# EAGLE library part MC14042BDG (library ON_Semiconductor_By_element14_Batch_1)
Quad Transparent Latch
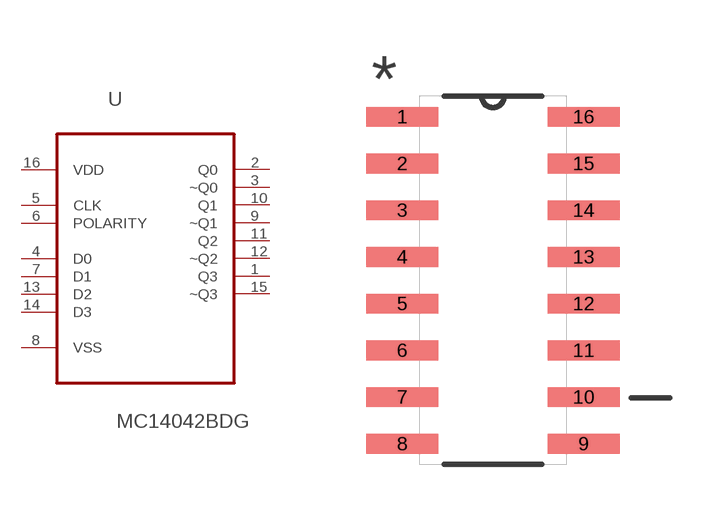
[diagram p227: symbol with the pads of SOIC127P600X175-16N; footprint SOIC127P600X175-16N]

Designator prefix U

## MC14042BDG (MPN: MC14042BDG; OC_FARNELL: -; OC_NEWARK: 71J5467; PACKAGE: SOIC-16; SUPPLIER: ON SEMICONDUCTOR)  [SOIC127P600X175-16N]
1  Q3  out
2  Q0  out
3  ~Q0  out
4  D0  in
5  CLK  in
6  POLARITY  in
7  D1  in
8  VSS  pas
9  ~Q1  out
10  Q1  out
11  Q2  out
12  ~Q2  out
13  D2  in
14  D3  in
15  ~Q3  out
16  VDD  pwr

## Footprint SOIC127P600X175-16N (pad centres in mm)
smd 1.956 x 0.533: 1 -2.464,4.445; 2 -2.464,3.175; 3 -2.464,1.905; 4 -2.464,0.635; 5 -2.464,-0.635; 6 -2.464,-1.905; 7 -2.464,-3.175; 8 -2.464,-4.445; 9 2.464,-4.445; 10 2.464,-3.175; 11 2.464,-1.905; 12 2.464,-0.635; 13 2.464,0.635; 14 2.464,1.905; 15 2.464,3.175; 16 2.464,4.445